# EAGLE library part CF-IDE (library Custom)
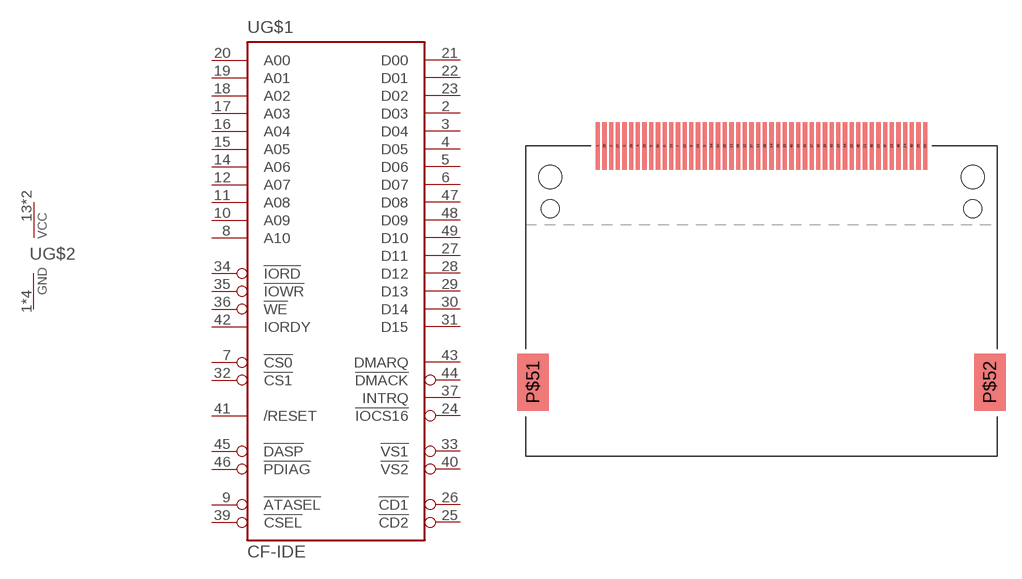
[diagram p17: symbol with the pads of CF-KYOCERA; footprint CF-KYOCERA]

Designator prefix -; gates G$1=CF-IDE G$2=PWRN

## CF-IDE  [CF-KYOCERA]
1  G$2:GND  pwr
2  G$1:D03  hiz
3  G$1:D04  hiz
4  G$1:D05  hiz
5  G$1:D06  hiz
6  G$1:D07  hiz
7  G$1:!CS0  in
8  G$1:A10  in
9  G$1:!ATASEL  in
10  G$1:A09  in
11  G$1:A08  in
12  G$1:A07  in
13  G$2:VCC  pwr
14  G$1:A06  in
15  G$1:A05  in
16  G$1:A04  in
17  G$1:A03  in
18  G$1:A02  in
19  G$1:A01  in
20  G$1:A00  in
21  G$1:D00  hiz
22  G$1:D01  hiz
23  G$1:D02  hiz
24  G$1:!IOCS16  out
25  G$1:!CD2  out
26  G$1:!CD1  out
27  G$1:D11  hiz
28  G$1:D12  hiz
29  G$1:D13  hiz
30  G$1:D14  hiz
31  G$1:D15  hiz
32  G$1:!CS1  in
33  G$1:!VS1  out
34  G$1:!IORD  in
35  G$1:!IOWR  in
36  G$1:!WE  in
37  G$1:INTRQ  out
38  G$2:VCC  pwr
39  G$1:!CSEL  in
40  G$1:!VS2  out
41  G$1:/RESET  in
42  G$1:IORDY  out
43  G$1:DMARQ  out
44  G$1:!DMACK  in
45  G$1:!DASP  oc
46  G$1:!PDIAG  out
47  G$1:D08  hiz
48  G$1:D09  hiz
49  G$1:D10  hiz
50  G$2:GND  pwr
P$51  G$2:GND  pwr
P$52  G$2:GND  pwr

## Footprint CF-KYOCERA (pad centres in mm)
smd 0.4 x 4.5: 1 -15.557,7.5; 2 -14.287,7.5; 3 -13.018,7.5; 4 -11.748,7.5; 5 -10.477,7.5; 6 -9.207,7.5; 7 -7.938,7.5; 8 -6.668,7.5; 9 -5.397,7.5; 10 -4.128,7.5; 11 -2.857,7.5; 12 -1.587,7.5; 13 -0.318,7.5; 14 0.953,7.5; 15 2.223,7.5; 16 3.493,7.5; 17 4.763,7.5; 18 6.032,7.5; 19 7.303,7.5; 20 8.572,7.5; 21 9.842,7.5; 22 11.113,7.5; 23 12.383,7.5; 24 13.652,7.5; 25 14.922,7.5; 26 -14.922,7.5; 27 -13.652,7.5; 28 -12.383,7.5; 29 -11.113,7.5; 30 -9.842,7.5; 31 -8.572,7.5; 32 -7.303,7.5; 33 -6.032,7.5; 34 -4.763,7.5; 35 -3.493,7.5; 36 -2.223,7.5; 37 -0.953,7.5; 38 0.318,7.5; 39 1.587,7.5; 40 2.857,7.5; 41 4.128,7.5; 42 5.397,7.5; 43 6.668,7.5; 44 7.938,7.5; 45 9.207,7.5; 46 10.477,7.5; 47 11.748,7.5; 48 13.018,7.5; 49 14.287,7.5; 50 15.557,7.5
smd 3 x 5.4: P$51 -21.71,-14.95; P$52 21.71,-14.95
hole 2.2 at -20.08,4.55
hole 1.7 at -20.08,1.55
hole 2.2 at 20.08,4.55
hole 1.7 at 20.08,1.55